# Altium schematic symbol library B3B-ZR(LF)(SN).SchLib: 1 symbol
Pins are listed as number, name and electrical type; pins without a type are passive.

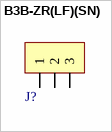
[diagram p0: symbol B3B-ZR(LF)(SN)]

## B3B-ZR(LF)(SN)
designator J?, comment Header_1x3  (value not drawn)
Manufacturer Part Number: G800W305018EU; ComponentLinkDescription: Datasheet; FR_SN: J-32; Part Number: Header_1x3; Value: Header_1x3; ComponentLinkURL: https://www.amphenol-icc.com/media/wysiwyg/files/documentation/datasheet/boardwiretoboard/bwb_agilbrick_2_54mm_btb_header_g800.pdf; Supplier Part Number: 523-G800W305018EU
footprint SHDRV3W50P150_3X1_600X350H450N (Header, Vertical Shroulded, 1.50 mm pitch; 0.50 mm lead width, 3 pins, 1 row, 3 pins per row, 6.00 mm L X 3.50 mm W X 4.50 mm H Body)
pins: 1, 2, 3